# Altium footprint library CUI_MSD-10-C.PcbLib: 1 footprints
Each footprint in its own frame and in the unit in brackets; x right, y up, seen from the top. Pads: shape width x height; smd on the part's side, far side on the other; paste and mask are expansions set on the pad; w line width, h text height; cw(c..) or ccw(c..) is an arc to the next point about the centre after c.
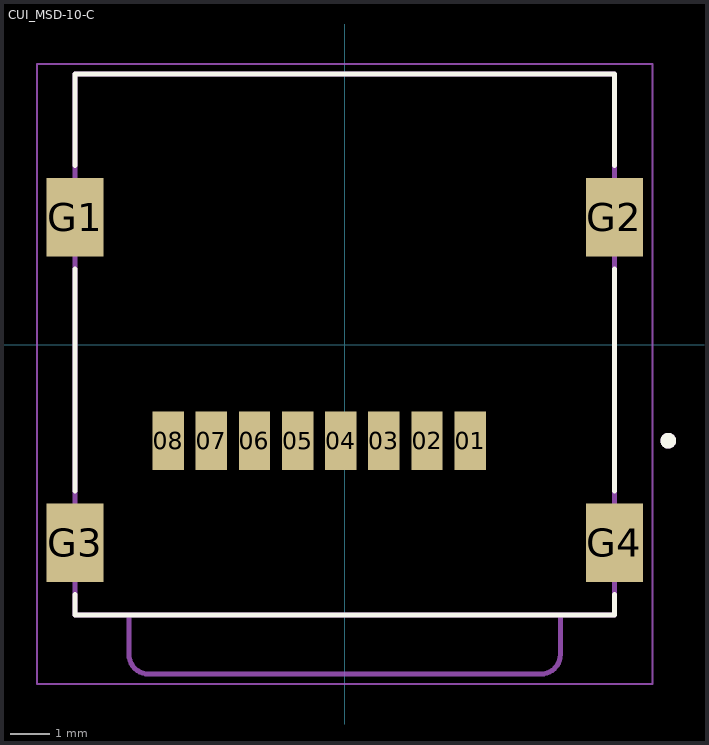
[diagram p0: the footprint, top view; thin cyan lines are the x and y axes]

## CUI_MSD-10-C [mm]
height 2.07
pads (12):
  rect 0.8x1.5 smd: 01(3.2,-2.45) 02(2.1,-2.45) 03(1,-2.45) 04(-0.1,-2.45) 05(-1.2,-2.45) 06(-2.3,-2.45) 07(-3.4,-2.45) 08(-4.5,-2.45)
  rect 1.45x2 smd: G1(-6.875,3.25) G2(6.875,3.25) G3(-6.875,-5.05) G4(6.875,-5.05)
Top Overlay:
  circle w0.2: c8.25,-2.45 r0.1
  lines w0.127: -6.875,-6.37 -6.875,-6.9 6.875,-6.9 6.875,-6.37 ; -6.875,-3.73 -6.875,1.93 ; -6.875,4.57 -6.875,6.9 6.875,6.9 6.875,4.57 ; 6.875,-3.73 6.875,1.93
Assembly Top:
  circle w0.2: c8.25,-2.45 r0.1
  lines w0.127: -5.5,-6.9 -5.5,-7.9 ccw(c-5,-7.9) -5,-8.4 5,-8.4 ccw(c5,-7.9) 5.5,-7.9 5.5,-6.9 ; -5.5,-6.9 5.5,-6.9 ; -5.5,-6.9 -6.875,-6.9 -6.875,6.9 6.875,6.9 6.875,-6.9 5.5,-6.9
Courtyard Top:
  lines w0.05: -7.85,-8.65 7.85,-8.65 7.85,7.15 -7.85,7.15 -7.85,-8.65
3D body "step_temp.STEP": height 1.89, standoff -0.01, extent -7.3,-7.099 7.3,7.099